# EAGLE library part 87831-1420 (library custom_dzmitry)
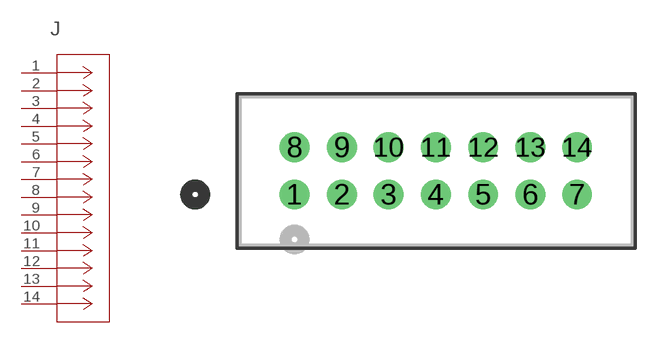
[diagram p10: symbol with the pads of CONN_87831-1420_MOL; footprint CONN_87831-1420_MOL]

Designator prefix J

## 87831-1420 (COPYRIGHT: Copyright (C) 2018 Accelerated Designs. All rights reserved; MANUFACTURER_PART_NUMBER: 87831-1420; SOURCELIBRARY: Molex_2012-01-01_87831; VENDOR: Molex Connector Corporation)  [CONN_87831-1420_MOL]
1  1  pas
2  2  pas
3  3  pas
4  4  pas
5  5  pas
6  6  pas
7  7  pas
8  8  pas
9  9  pas
10  10  pas
11  11  pas
12  12  pas
13  13  pas
14  14  pas

## Footprint CONN_87831-1420_MOL (pad centres in mm)
drill 0.762 pad 1.27: 1 0,0; 2 2.007,0; 3 3.988,0; 4 5.994,0; 5 8.001,0; 6 10.008,0; 7 11.989,0; 8 0,2.007; 9 2.007,2.007; 10 3.988,2.007; 11 5.994,2.007; 12 8.001,2.007; 13 10.008,2.007; 14 11.989,2.007